# Altium schematic symbol library Audio SMD 3.5mm.SchLib: 1 symbol
Pins are listed as number, name and electrical type; pins without a type are passive.

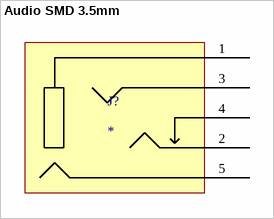
[diagram p0: symbol Audio SMD 3.5mm]

## Audio SMD 3.5mm
designator J?
footprint SMDAudio3.5mm
pins: 1 (power), 2 (power), 3 (power), 4 (power), 5 (power)